# EAGLE library part TPS2051B_D_8 (library BeagleBone_Blue)
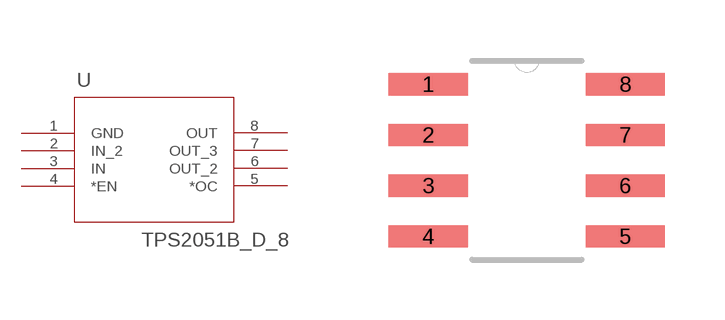
[diagram p4: symbol with the pads of BEAGLEBONE_BLUE_D8; footprint BEAGLEBONE_BLUE_D8]

Designator prefix U

## TPS2051B_D_8 (DATASHEETURL: http://www.ti.com/lit/gpn/TPS2051B; DESCRIPTION: Single, Current-Limited, Power-Distribution Switch; FAMILY_NAME: USB POWER SWITCH; GENERIC_PART_NUMBER: TPS2051B; INDUSTRY_STD_PKG_TYPE: SOIC; MANUFACTURER: Texas Instruments; MANUFACTURER_PART_NUMBER: tps2051b_d_8; PACKAGE_DESIGNATOR: D; PIN_COUNT: 8; VENDOR: Texas Instruments)  [BEAGLEBONE_BLUE_D8]
1  GND  pwr
2  IN_2  in
3  IN  in
4  *EN  in
5  *OC  out
6  OUT_2  pwr
7  OUT_3  pwr
8  OUT  pwr

## Footprint BEAGLEBONE_BLUE_D8 (pad centres in mm)
smd 1.981 x 0.559: 1 -2.464,1.905; 2 -2.464,0.635; 3 -2.464,-0.635; 4 -2.464,-1.905; 5 2.464,-1.905; 6 2.464,-0.635; 7 2.464,0.635; 8 2.464,1.905